# Altium footprint library Merge_ESC_Board_Library.PcbLib: 17 footprints (part 1 of 2)
Each footprint in its own frame and in the unit in brackets; x right, y up, seen from the top. Pads: shape width x height; smd on the part's side, far side on the other; paste and mask are expansions set on the pad; w line width, h text height; cw(c..) or ccw(c..) is an arc to the next point about the centre after c.
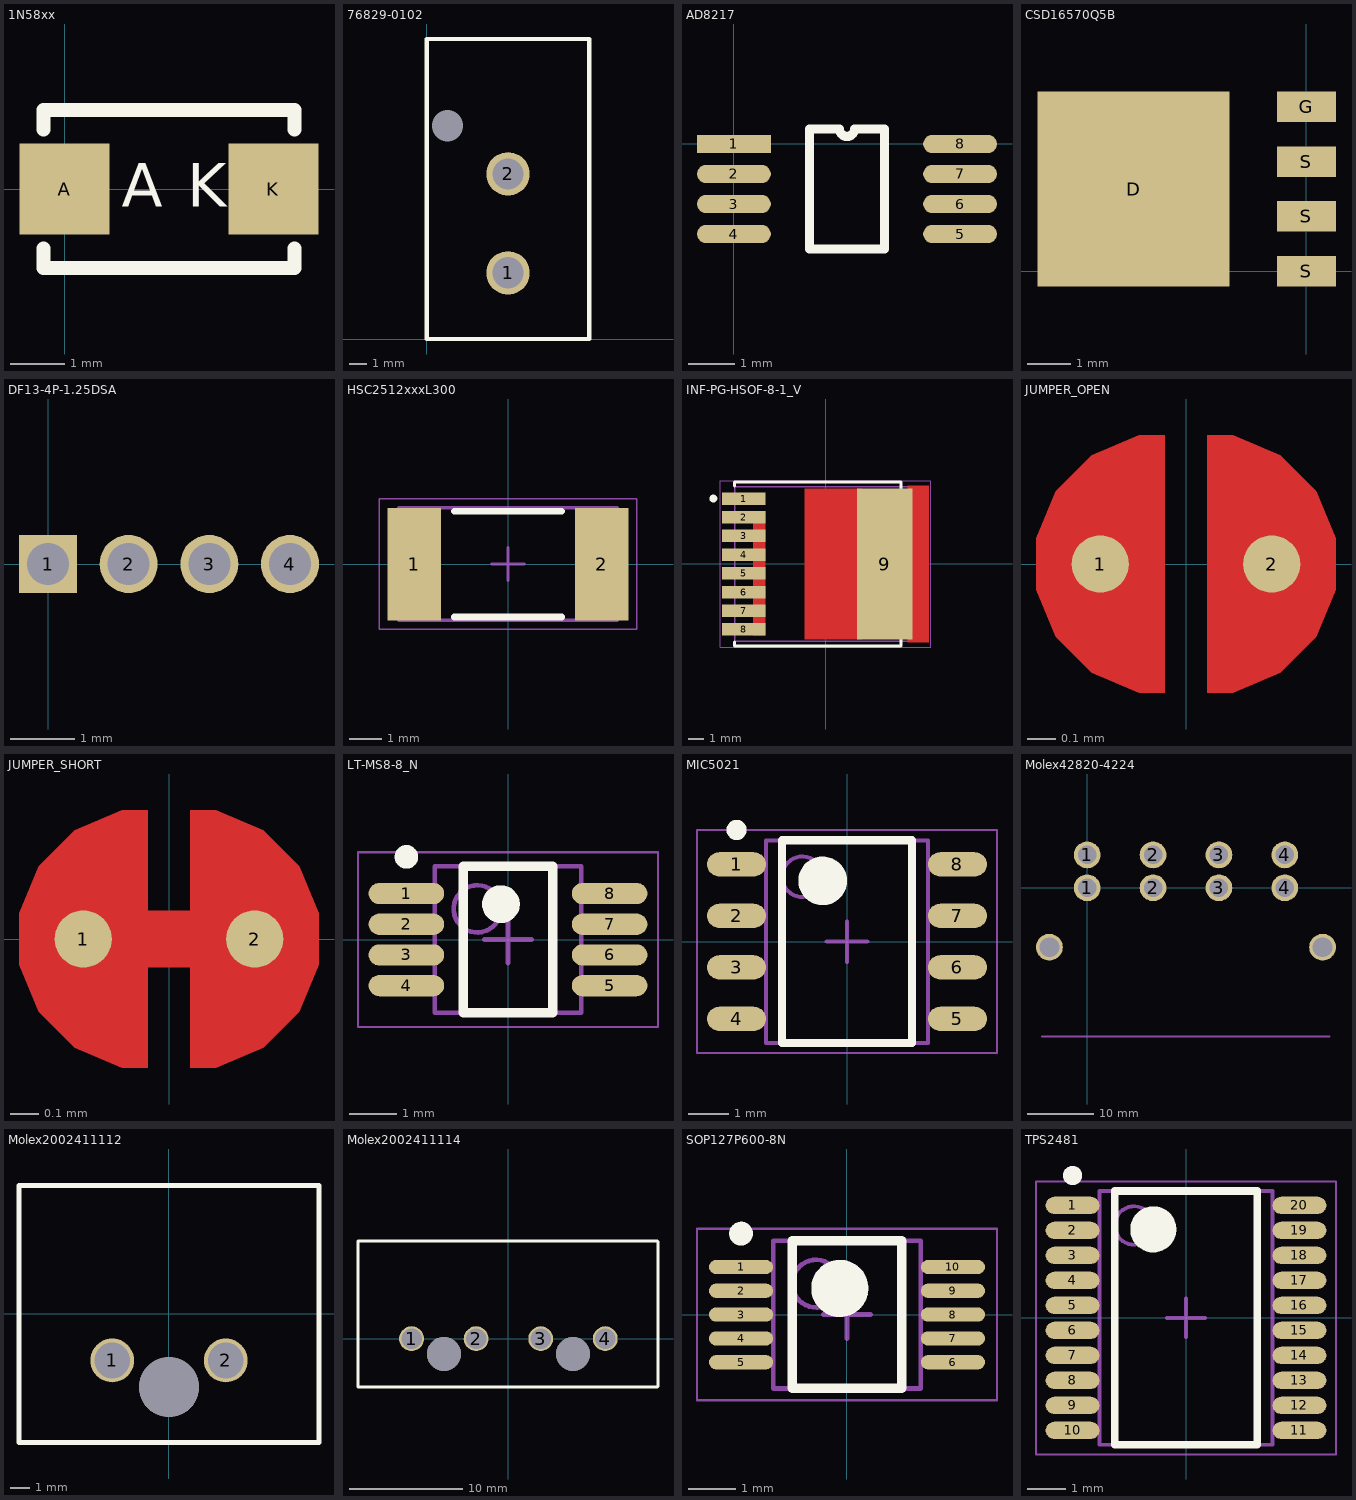
[diagram p0: the footprints below, top view; thin cyan lines are the x and y axes]

## 1N58xx [mm] "1A Schottky Barrier Rectifier Diode"
height 2.44
pads (2):
  rect 1.655x1.67 smd: A(0,0) K(3.83,0)
Top Overlay:
  lines w0.254: -0.385,-1.09 -0.385,-1.45 4.215,-1.45 4.215,-1.09 ; -0.385,1.09 -0.385,1.45 4.215,1.45 4.215,1.09
  text "K" at 2.25,-0.325 h0.8
  text "A" at 1.05,-0.325 h0.8
3D body: height 1.49, standoff -1.41, extent 0,-2 0,-2
3D body: height 2.4, standoff 0, extent -0.4,-1.45 4.2,1.45

## 76829-0102 [mm] "molex 2 circuit connector megafit slim"
pads (3):
  round 2.5 hole 1.8 mask+0.3: 1(4.67,3.81) 2(4.67,9.51)
  round 0 hole 1.8 unplated: ""(1.19,12.28)
Top Overlay:
  lines w0.254: 0,0 9.34,0 9.34,17.28 0,17.28 0,0
3D body "768290102.stp": height 16.95, standoff -1.63, extent 0.501,0.503 8.85,14.537

## AD8217 [mm] "High Resolution, Zero-Drift Current Shunt Monitor"
height 1.1
pads (8):
  rect 1.6x0.4 smd: 1(0,0)
  oval 1.6x0.4 smd: 2(0,-0.65) 3(0,-1.3) 4(0,-1.95) 5(4.9,-1.95) 6(4.9,-1.3) 7(4.9,-0.65) 8(4.9,0)
Top Overlay:
  lines w0.2: 1.635,-2.275 1.635,0.325 2.288,0.325 ccw(c2.45,0.325) 2.612,0.325 3.265,0.325 3.265,-2.275 1.635,-2.275

## CSD16570Q5B [mm] "MOSFET N-CH 25V 100A 8VSON"
height 1.05
pads (5):
  rect 4.44x4.52 smd: D(-4.006,1.905)
  rect 1.372x0.71 smd: G(0,3.81) S(0,0) S(0,1.27) S(0,2.54)
3D body: height 1, standoff 0, extent -5.8,-0.6 0.2,4.4

## DF13-4P-1.25DSA [mm] "Depth Sensor Header footprint"
pads (4):
  rect 0.9x0.9 hole 0.65: 1(0,0)
  round 0.9 hole 0.65: 2(1.25,0) 3(2.5,0) 4(3.75,0)
3D body "DF13-4P-1.25DSA.stp": height 4.27, standoff -2.33, extent -1.425,-1.2 5.225,2.2

## HSC2512xxxL300 [mm] "Chip Resistor, 2-Leads, Body 6.50x3.25mm, IPC Medium Density"
height 1.32
pads (2):
  rect 1.65x3.45 smd: 1(-2.875,0) 2(2.875,0)
Top Overlay:
  lines w0.2: -1.65,-1.625 1.65,-1.625 ; -1.65,1.625 1.65,1.625
Mechanical 13:
  lines w0.1: -3.35,-1.725 -3.35,1.725 3.35,1.725 3.35,-1.725 -3.35,-1.725
Mechanical 15:
  lines w0.05: -3.95,-2 -3.95,2 3.95,2 3.95,-2 -3.95,-2
  lines w0.1: -0.5,0 0.5,0 ; 0,-0.5 0,0.5
3D body: height 1.32, standoff 0, extent -2.45,-1.725 2.45,1.725
3D body: height 1.32, standoff 0, extent -3.35,-1.725 -2.45,1.725
3D body: height 1.32, standoff 0, extent 2.45,-1.725 3.35,1.725

## INF-PG-HSOF-8-1_V [mm]
pads (9):
  rect 2.8x0.8 smd: 1(-5.249,4.2) 2(-5.249,3) 3(-5.249,1.8) 4(-5.249,0.6) 5(-5.249,-0.6) 6(-5.249,-1.8) 7(-5.249,-3) 8(-5.249,-4.2)
  rect 3.556x9.703 smd: 9(3.8,0)
Top Layer:
  region: -4.65,3.4 -4.65,-4.6 -3.85,-4.6 -3.85,3.4
  region: 5.25,5.05 5.25,-5.05 6.65,-5.05 6.65,5.05
  region: -1.35,4.85 -1.35,-4.85 2.35,-4.85 2.35,4.85
Top Overlay:
  circle w0.25: c-7.199,4.2 r0.125
  lines w0.2: -5.837,-5 -5.837,-5.25 4.85,-5.25 4.85,-4.75 ; -5.837,5 -5.837,5.25 4.85,5.25 4.85,4.75
Mechanical 13:
  lines w0.1: -5.837,-4.95 5.837,-4.95 5.837,4.95 -5.837,4.95 -5.837,-4.95
Mechanical 15:
  lines w0.05: -6.75,-5.35 -6.75,5.35 6.75,5.35 6.75,-5.35 -6.75,-5.35
  lines w0.1: -0.5,0 0.5,0 ; 0,-0.5 0,0.5
3D body: height 2.4, standoff 0, extent -5.837,-4.949 5.837,4.949

## JUMPER_OPEN [mm] "Jumper (Default Open)"
pads (2):
  round 0.2 smd mask-4: 1(-0.3,0) 2(0.3,0)
Top Layer:
  region: 0.075,0.45 0.165,0.45 0.33,0.381 0.456,0.255 0.525,0.09 0.525,0 0.525,-0.09 0.456,-0.255 0.33,-0.381 0.165,-0.45 0.075,-0.45
  region: -0.075,0.45 -0.165,0.45 -0.33,0.381 -0.456,0.255 -0.525,0.09 -0.525,0 -0.525,-0.09 -0.456,-0.255 -0.33,-0.381 -0.165,-0.45 -0.075,-0.45
Top Solder:
  rectangle: -0.075,-0.45 0.075,0.45

## JUMPER_SHORT [mm] "Jumper (Default Short)"
pads (2):
  round 0.2 smd mask-4: 1(-0.3,0) 2(0.3,0)
Top Layer:
  rectangle: -0.2,-0.1 0.2,0.1
  region: 0.075,0.45 0.165,0.45 0.33,0.381 0.456,0.255 0.525,0.09 0.525,0 0.525,-0.09 0.456,-0.255 0.33,-0.381 0.165,-0.45 0.075,-0.45
  region: -0.075,0.45 -0.165,0.45 -0.33,0.381 -0.456,0.255 -0.525,0.09 -0.525,0 -0.525,-0.09 -0.456,-0.255 -0.33,-0.381 -0.165,-0.45 -0.075,-0.45
Top Solder:
  rectangle: -0.075,-0.45 0.075,0.45

## LT-MS8-8_N [mm] "Positive High Voltage Ideal Diode Controller, 9 to 80 V Vin, 8-pin SOP (MS8-8), 0 to 70 degC, Pb-Free"
pads (8):
  oval 1.6x0.45 smd: 1(-2.15,0.975) 2(-2.15,0.325) 3(-2.15,-0.325) 4(-2.15,-0.975) 5(2.15,-0.975) 6(2.15,-0.325) 7(2.15,0.325) 8(2.15,0.975)
Top Overlay:
  circle w0.4: c-0.15,0.75 r0.2
  circle w0.25: c-2.15,1.75 r0.125
  lines w0.2: -0.95,-1.55 0.95,-1.55 0.95,1.55 -0.95,1.55 -0.95,-1.55
Mechanical 13:
  circle w0.1: c-0.65,0.65 r0.5
  lines w0.1: -1.55,-1.55 1.55,-1.55 1.55,1.55 -1.55,1.55 -1.55,-1.55
Mechanical 15:
  lines w0.05: -3.175,-1.85 3.175,-1.85 3.175,1.85 -3.175,1.85 -3.175,-1.85
  lines w0.1: -0.5,0 0.5,0 ; 0,-0.5 0,0.5
3D body: height 1.1, standoff 0.05, extent -1.55,-1.55 1.55,1.55

## MIC5021 [mm] "SOIC, 8-Leads, Body 4.89x3.90mm, Pitch 1.27mm, IPC Medium Density"
height 1.73
pads (8):
  oval 1.45x0.6 smd: 1(-2.725,1.905) 2(-2.725,0.635) 3(-2.725,-0.635) 4(-2.725,-1.905) 5(2.725,-1.905) 6(2.725,-0.635) 7(2.725,0.635) 8(2.725,1.905)
Top Overlay:
  circle w0.6: c-0.6,1.5 r0.3
  circle w0.25: c-2.725,2.755 r0.125
  lines w0.2: -1.6,-2.5 1.6,-2.5 1.6,2.5 -1.6,2.5 -1.6,-2.5
Mechanical 13:
  circle w0.1: c-1.1,1.6 r0.5
  lines w0.1: -2,-2.5 2,-2.5 2,2.5 -2,2.5 -2,-2.5
Mechanical 15:
  lines w0.05: -3.7,-2.75 3.7,-2.75 3.7,2.75 -3.7,2.75 -3.7,-2.75
  lines w0.1: -0.5,0 0.5,0 ; 0,-0.5 0,0.5
3D body: height 1.73, standoff 0.1, extent -2,-2.5 2,2.5

## Molex42820-4224 [mm]
pads (10):
  round 4.064 hole 2.8: 1(0,0) 1(0,5) 2(10,0) 2(10,5) 3(20,0) 3(20,5) 4(30,0) 4(30,5)
  round 4.064 hole 3 unplated: ""(-5.73,-9) ""(35.73,-9)
Mechanical 1:
  lines w0.254: -6.86,-22.555 36.833,-22.555
3D body: height 0.25, standoff 0, extent 15.494,-2.54 15.494,-2.54
3D body "428204224.stp": height 15, standoff -3.45, extent -6.924,-22.619 36.896,5.981

## Molex2002411112 [mm]
height 15.3
pads (3):
  round 2.2 hole 1.8: 1(-2.85,-2.33) 2(2.85,-2.33)
  round 3 hole 3 unplated: ""(0,-3.67)
Top Overlay:
  lines w0.254: -7.53,-6.45 -7.53,6.45 7.53,6.45 7.53,-6.45 -7.53,-6.45
3D body "2002411112.stp": height 17.7, standoff -3.03, extent -6.009,-5.588 6.041,5.012

## Molex2002411114 [mm]
height 15
pads (6):
  round 2.2 hole 1.8: 1(-8.55,0) 2(-2.85,0) 3(2.85,0) 4(8.55,0)
  round 3 hole 3 unplated: ""(-5.7,-1.34) ""(5.7,-1.34)
Top Overlay:
  lines w0.254: 13.151,-4.27 -13.281,-4.27 -13.281,8.63 13.164,8.63 13.205,8.589 13.205,-4.235
3D body "2002411114.stp": height 17.5, standoff -3.23, extent -11.725,-3.395 11.725,7.205

## SOP127P600-8N [mm]
height 1.1
pads (10):
  oval 1.35x0.3 smd: 1(-2.225,1) 2(-2.225,0.5) 3(-2.225,0) 4(-2.225,-0.5) 5(-2.225,-1) 6(2.225,-1) 7(2.225,-0.5) 8(2.225,0) 9(2.225,0.5) 10(2.225,1)
Top Overlay:
  circle w0.6: c-0.15,0.55 r0.3
  circle w0.25: c-2.225,1.7 r0.125
  lines w0.2: -1.15,-1.55 1.15,-1.55 1.15,1.55 -1.15,1.55 -1.15,-1.55
Mechanical 13:
  circle w0.1: c-0.65,0.65 r0.5
  lines w0.1: -1.55,-1.55 1.55,-1.55 1.55,1.55 -1.55,1.55 -1.55,-1.55
Mechanical 15:
  lines w0.05: -3.15,-1.8 3.15,-1.8 3.15,1.8 -3.15,1.8 -3.15,-1.8
  lines w0.1: -0.5,0 0.5,0 ; 0,-0.5 0,0.5
3D body: height 1.1, standoff 0.15, extent -1.55,-1.55 1.55,1.55

## TPS2481 [mm]
height 1.2
pads (20):
  oval 1.4x0.45 smd: 1(-2.95,2.925) 2(-2.95,2.275) 3(-2.95,1.625) 4(-2.95,0.975) 5(-2.95,0.325) 6(-2.95,-0.325) 7(-2.95,-0.975) 8(-2.95,-1.625) 9(-2.95,-2.275) 10(-2.95,-2.925) 11(2.95,-2.925) 12(2.95,-2.275) 13(2.95,-1.625) 14(2.95,-0.975) 15(2.95,-0.325) 16(2.95,0.325) 17(2.95,0.975) 18(2.95,1.625) 19(2.95,2.275) 20(2.95,2.925)
Top Overlay:
  circle w0.6: c-0.85,2.3 r0.3
  circle w0.25: c-2.95,3.7 r0.125
  lines w0.2: -1.85,-3.3 1.85,-3.3 1.85,3.3 -1.85,3.3 -1.85,-3.3
Mechanical 13:
  circle w0.1: c-1.35,2.4 r0.5
  lines w0.1: -2.25,-3.3 2.25,-3.3 2.25,3.3 -2.25,3.3 -2.25,-3.3
Mechanical 15:
  lines w0.05: -3.9,-3.55 3.9,-3.55 3.9,3.55 -3.9,3.55 -3.9,-3.55
  lines w0.1: -0.5,0 0.5,0 ; 0,-0.5 0,0.5
3D body: height 1.2, standoff 0.05, extent -2.25,-3.3 2.25,3.3